# Altium integrated library Integrated_Library1.IntLib: 2 symbols
Pins are listed as number, name and electrical type; pins without a type are passive.

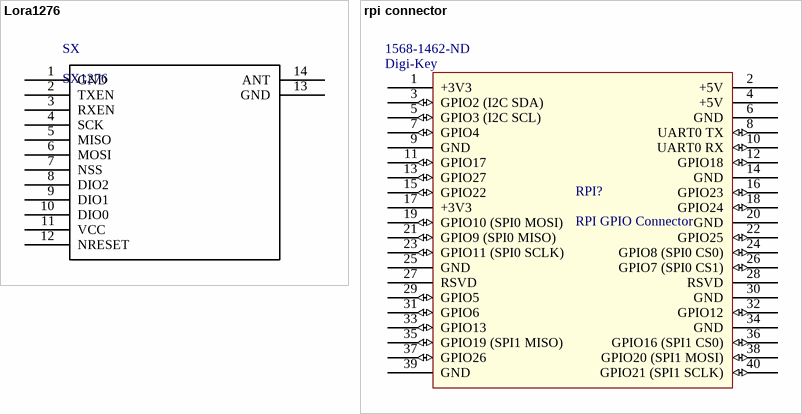
[diagram p0: symbols Lora1276 to rpi connector]

## Lora1276
designator SX, comment SX1276
G-NICERF 1276
footprint PCBComponent_1
pins: 1 GND, 2 TXEN, 3 RXEN, 4 SCK, 5 MISO, 6 MOSI, 7 NSS, 8 DIO2, 9 DIO1, 10 DIO0, 11 VCC, 12 NRESET, 13 GND, 14 ANT

## rpi connector
designator RPI?, comment RPI GPIO Connector  Supplier 1: Digi-Key  Supplier Part Number 1: 1568-1462-ND
GPIO Header for Raspberry Pi A+/B+/Pi 2/Pi 3 - 2x20; Manufacturer: SparkFun Electronics; Manufacturer Part Number: PRT-14017; Nils Minor: author; nilsminor@web.de: mail; RoHS: RoHS Compliant; Category: Development Boards, Kits, Programmers; Stock 1: 150; Pricing 1: 1=1.84 (EUR); Part Status: Active; Accessory Type: Connector; For Use With/Related Products: Raspberry Pi; ComponentLink1URL: https://cdn.sparkfun.com/datasheets/Dev/RaspberryPi/12313.pdf; ComponentLink1Description: https://cdn.sparkfun.com/datasheets/Dev/RaspberryPi/12313.pdf
footprint rpi
pins: 1 +3V3 (power), 2 +5V (power), 3 GPIO2 (I2C SDA) (io), 4 +5V (power), 5 GPIO3 (I2C SCL) (io), 6 GND (power), 7 GPIO4 (io), 8 UART0 TX (io), 9 GND (power), 10 UART0 RX (io), 11 GPIO17 (io), 12 GPIO18 (io), 13 GPIO27 (io), 14 GND (power), 15 GPIO22 (io), 16 GPIO23 (io), 17 +3V3 (power), 18 GPIO24 (io), 19 GPIO10 (SPI0 MOSI) (io), 20 GND (power), 21 GPIO9 (SPI0 MISO) (io), 22 GPIO25 (io), 23 GPIO11 (SPI0 SCLK) (io), 24 GPIO8 (SPI0 CS0) (io), 25 GND (power), 26 GPIO7 (SPI0 CS1) (io), 27 RSVD, 28 RSVD, 29 GPIO5 (io), 30 GND (power), 31 GPIO6 (io), 32 GPIO12 (io), 33 GPIO13 (io), 34 GND, 35 GPIO19 (SPI1 MISO) (io), 36 GPIO16 (SPI1 CS0) (io), 37 GPIO26 (io), 38 GPIO20 (SPI1 MOSI) (io), 39 GND (power), 40 GPIO21 (SPI1 SCLK) (io)